# Altium integrated library RPL_POWER.IntLib: 35 symbols
Pins are listed as number, name and electrical type; pins without a type are passive.

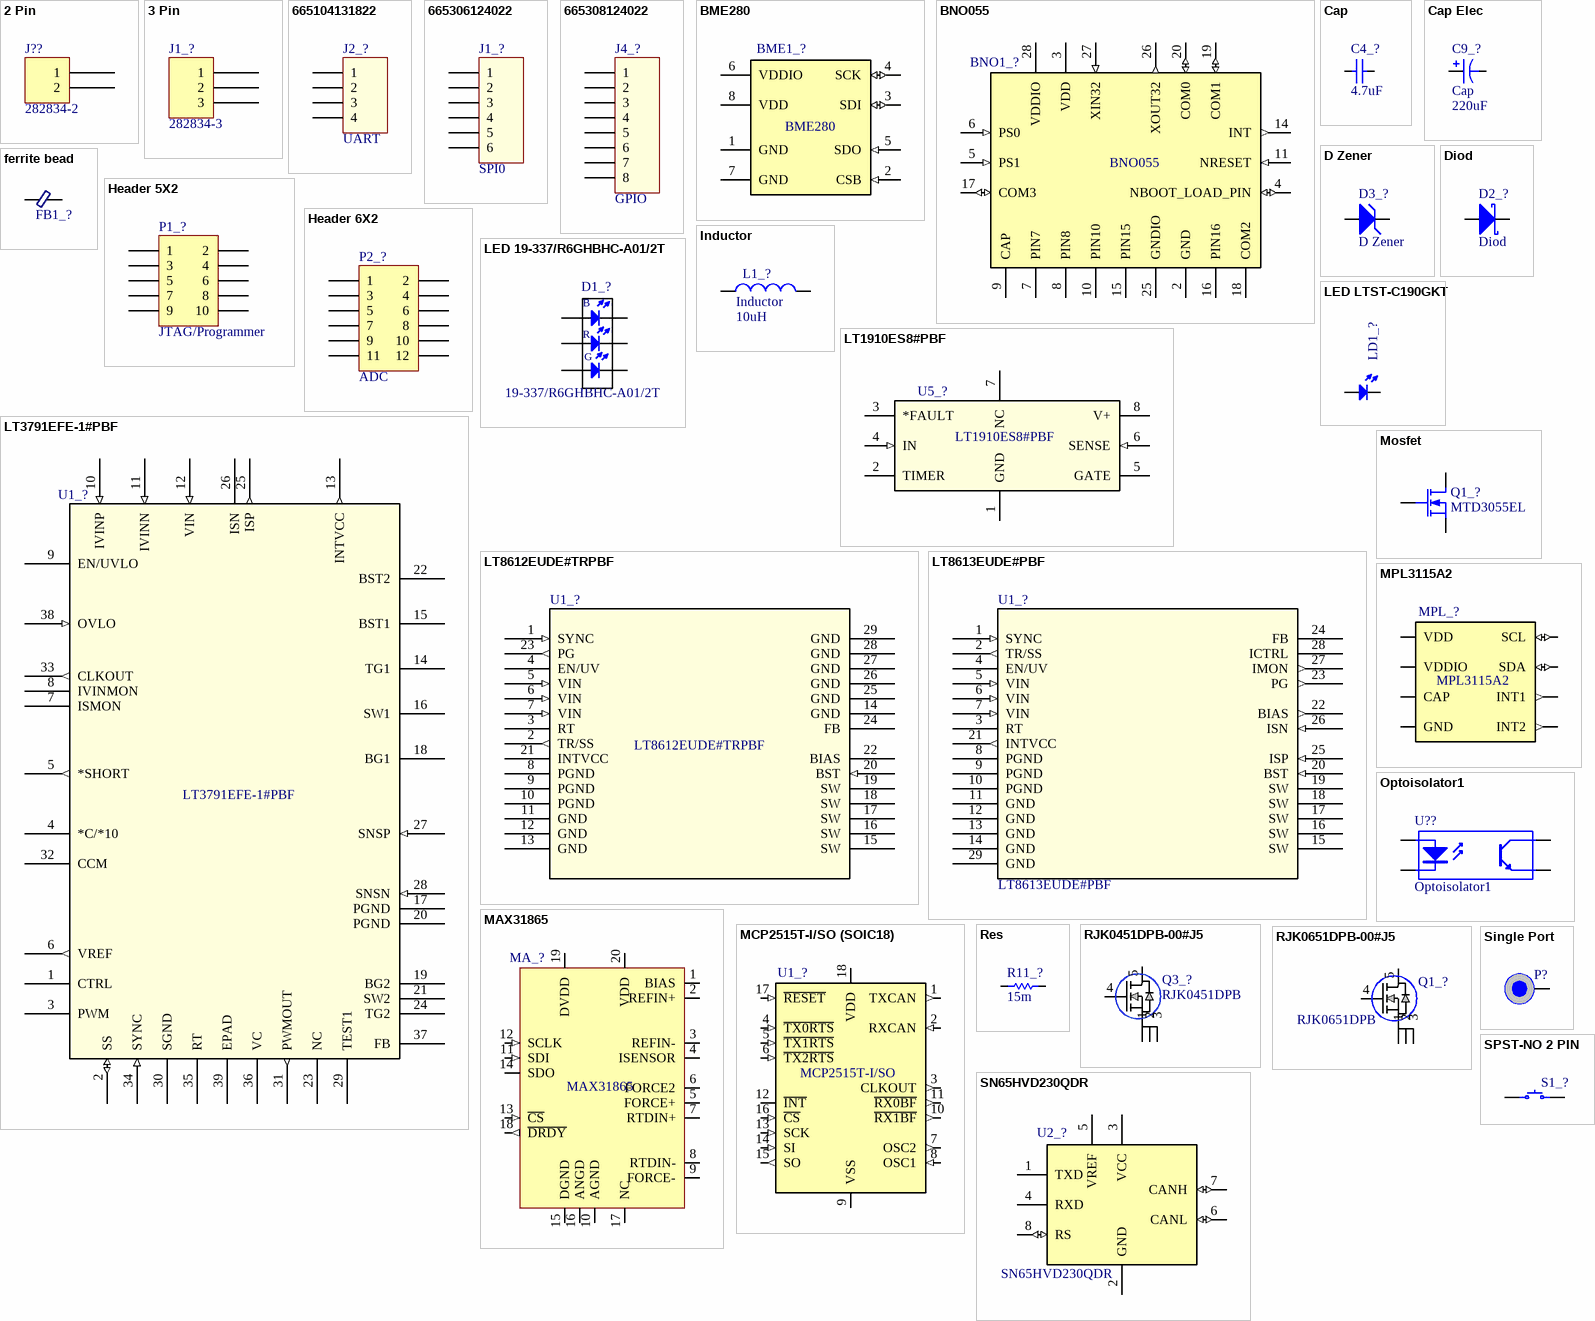
[diagram p0: symbols 2 Pin to SPST-NO 2 PIN]

## 2 Pin
designator J??, comment 282834-2
TERM BLOCK 2POS SIDE ENT 2.54MM; Manufacturer: TE Connectivity AMP Connectors; TemperatureRange: -40C ~ 105C; Voltage: 150V; Pitch: 0.100" (2.54mm); Number Of Levels: 1; Positions Per Level: 2; Part Number: 282834-2; PartId: 9289; Supplier 1: Digi-Key; Supplier Part Number 1: A98333-ND; ComponentLink1Description: Datasheet; ComponentLink1URL: http://www.te.com/commerce/DocumentDelivery/DDEController?Action=srchrtrv&DocNm=282834&DocType=Customer+Drawing&DocLang=English; ComponentLink2Description: Digi-Key Listing; ComponentLink2URL: http://www.digikey.ca/product-detail/en/282834-2/A98333-ND/1150135; Price: 1.3; Colour: Green; Orientation: Horizontal with Board
footprint TE 282834-2
pins: 1, 2

## 3 Pin
designator J1_?, comment 282834-3
TERM BLOCK 3POS SIDE ENT 2.54MM; Manufacturer: TE Connectivity AMP Connectors; TemperatureRange: -40C ~ 105C; Voltage: 150V; Pitch: 0.100" (2.54mm); Number Of Levels: 1; Positions Per Level: 3; Part Number: 282834-3; PartId: 9290; Supplier 1: Digi-Key; Supplier Part Number 1: A98334-ND; ComponentLink1Description: Datasheet; ComponentLink1URL: http://www.te.com/commerce/DocumentDelivery/DDEController?Action=srchrtrv&DocNm=282834&DocType=Customer+Drawing&DocLang=English; ComponentLink2Description: Digi-Key Listing; ComponentLink2URL: http://www.digikey.ca/product-detail/en/282834-3/A98334-ND/1153264; Price: 2.25; Colour: Green; Orientation: Horizontal with Board
footprint TE 282834-3
pins: 1, 2, 3

## 665104131822
designator J2_?, comment UART
WR-WTB 1.00 mm SMT Male Horizontal Shrouded, 4p; Part Number: 665104131822; Pitch: 1 mm; Pin Number: 4; ComponentLink1Description: Manufacturer; ComponentLink1URL: http://www.we-online.de; ComponentLink2Description: Datasheet; ComponentLink2URL: http://katalog.we-online.de/em/datasheet/6651xx131822.pdf; Published Date: June 2017; Publisher: Wurth Elektronik
footprint 665104131822 (1.00 mm SMT Male Horizontal Shrouded, 4p)
pins: 1, 2, 3, 4

## 665306124022
designator J1_?, comment SPI0
WR-WTB 1.00 mm SMT Male Vertical Shrouded Header, 6p; Part Number: 665306124022; Pitch: 1 mm; Pin Number: 6; ComponentLink1Description: Manufacturer; ComponentLink1URL: http://www.we-online.de; ComponentLink2Description: Datasheet; ComponentLink2URL: http://katalog.we-online.de/em/datasheet/6653xx124022.pdf; Published Date: June 2017; Publisher: Wurth Elektronik
footprint 665306124022 (1.00 mm SMT Male Vertical Shrouded Header, 6p)
pins: 1, 2, 3, 4, 5, 6

## 665308124022
designator J4_?, comment GPIO
WR-WTB 1.00 mm SMT Male Vertical Shrouded Header, 8p; Part Number: 665308124022; Pitch: 1 mm; Pin Number: 8; ComponentLink1Description: Manufacturer; ComponentLink1URL: http://www.we-online.de; ComponentLink2Description: Datasheet; ComponentLink2URL: http://katalog.we-online.de/em/datasheet/6653xx124022.pdf; Published Date: June 2017; Publisher: Wurth Elektronik
footprint 665308124022 (1.00 mm SMT Male Vertical Shrouded Header, 8p)
pins: 1, 2, 3, 4, 5, 6, 7, 8

## BME280
designator BME1_?
Integrated pressure, humidity and temperature sensor; 8-pin 2.5x2.5x0.93mm LGA; MF: Bosch; Package: LGA-8 Bosch; Availability: Good; MP: BME280; Price: 5.12 USD; Value: *
footprint BME280
pins: 1 GND (power), 2 CSB (in), 3 SDI (io), 4 SCK (io), 5 SDO (in), 6 VDDIO (power), 7 GND (power), 8 VDD (power)

## BNO055
designator BNO1_?
BNO055 9-axis Absolute Orientation Sensor ( SiP ) w/Sensors and Sensor Fusion; MF: Bosch; MP: BNO055; Availability: Good; Package: LGA-28 Bosch; Price: 7.78 USD; Value: *
footprint LGA28R50P4X10_380X520X100
pins: 2 GND (power), 3 VDD (power), 4 NBOOT_LOAD_PIN (io), 5 PS1 (in), 6 PS0 (in), 7 PIN7, 8 PIN8, 9 CAP, 10 PIN10 (power), 11 NRESET (in), 14 INT (out), 15 PIN15 (power), 16 PIN16 (power), 17 COM3 (io), 18 COM2, 19 COM1 (io), 20 COM0 (io), 25 GNDIO (power), 26 XOUT32 (out), 27 XIN32 (in), 28 VDDIO (power)

## Cap
designator C4_?  value 4.7uF  (hidden comment: Cap)
footprint C0805C475K9RACAUTO (CAPC2013X88N)
pins: 1, 2

## Cap Elec
designator C9_?, comment Cap  value 220uF
footprint EEE_FK1V221AP
pins: 1, 2

## D Zener
designator D3_?
Zener Diode; Published: 8-Jun-2000; LatestRevisionDate: 17-Jul-2002; LatestRevisionNote: Re-released for DXP Platform.; PackageReference: DIODE-0.7; Publisher: Altium Limited; PackageDescription: Diode, Thru-Hole; 2 Leads; 0.7 in Pin Spacing
footprint SMAJ30A-TP
pins: 1 A, 2 K

## Diod
designator D2_?
footprint SODFL250X80-2N (SODFL, 2-Leads, Body 1.25x2.50mm, IPC Medium Density)
pins: 1 A, 2 K

## ferrite bead
designator FB1_?  (value not drawn)
footprint RES 0805
pins: 1, 2

## Header 5X2
designator P1_?, comment JTAG/Programmer
Header, 5-Pin, Dual row; LatestRevisionDate: 17-Jul-2002; LatestRevisionNote: Re-released for DXP Platform.; Publisher: Altium Limited
footprint FTSH-105-01-XXX-D-K
pins: 1, 2, 3, 4, 5, 6, 7, 8, 9, 10

## Header 6X2
designator P2_?, comment ADC
Header, 6-Pin, Dual row; LatestRevisionDate: 17-Jul-2002; LatestRevisionNote: Re-released for DXP Platform.; Publisher: Altium Limited
footprint HDR2X6 (Connector; Header; 6x2 Position)
signal-integrity model Connector
pins: 1, 2, 3, 4, 5, 6, 7, 8, 9, 10, 11, 12

## Inductor
designator L1_?  value 10uH
footprint SER1360-103KLB
pins: 1, 2

## LED 19-337/R6GHBHC-A01/2T
designator D1_?, comment 19-337/R6GHBHC-A01/2T
LED Tri-Color Blue/Green/Red 468nm/518nm/632nm 6-Pin T/R; MF: Everlight; Package: SMD-2 Everlight; Price: 0.17 USD; MP: 19-337/R6GHBHC-A01/2T; Availability: Good; Value: *
footprint LED_19-337/R6GHBHC-A01/2T
pins: 1 C1, 2 C2, 3 C3, 4 A1, 5 A2, 6 A3
text: B; R; G

## LED LTST-C190GKT
designator LD1_?  (value not drawn)
Green 1.6 x 0.8 x 0.8 mm 130Â° Water Clear 6 mcd 2.1 V SMT LED; MF: Lite-On; Price: 0.06 USD; MP: LTST-C190GKT; Availability: Good; Package: 0603 Lite-On; Value: *
footprint LEDM1608X80_LTST-C190GKT(Primary)
pins: A, C

## LT1910ES8#PBF
designator U5_?
Imported; Vendor: Linear Technology; Manufacturer_Part_Number: lt1910es8#pbf; Value: Value; Type: Type; RefDes: RefDes
footprint SO-8_S
pins: 1 GND (power), 2 TIMER, 3 *FAULT, 4 IN (in), 5 GATE, 6 SENSE (in), 7 NC, 8 V+ (power)

## LT3791EFE-1#PBF
designator U1_?
Imported; Vendor: Linear Technology; Manufacturer_Part_Number: lt3791efe-1#pbf; Value: Value; Type: Type; RefDes: RefDes
footprint TSSOP-38_FE/AA
pins: 1 CTRL, 2 SS (io), 3 PWM, 4 *C/*10, 5 *SHORT (out), 6 VREF (out), 7 ISMON, 8 IVINMON, 9 EN/UVLO, 10 IVINP (in), 11 IVINN (in), 12 VIN (in), 13 INTVCC (out), 14 TG1, 15 BST1, 16 SW1, 17 PGND (power), 18 BG1, 19 BG2, 20 PGND (power), 21 SW2, 22 BST2, 23 NC, 24 TG2, 25 ISP (out), 26 ISN, 27 SNSP (in), 28 SNSN (in), 29 TEST1, 30 SGND (power), 31 PWMOUT (out), 32 CCM, 33 CLKOUT (out), 34 SYNC (in), 35 RT, 36 VC, 37 FB, 38 OVLO (in), 39 EPAD

## LT8612EUDE#TRPBF
designator U1_?
Imported; Vendor: Linear Technology; Manufacturer_Part_Number: lt8612eude#trpbf; Value: Value; Type: Type; RefDes: RefDes
footprint QFN-28_UDE-M
pins: 1 SYNC (in), 2 TR/SS (out), 3 RT, 4 EN/UV, 5 VIN (in), 6 VIN (in), 7 VIN (in), 8 PGND (power), 9 PGND (power), 10 PGND (power), 11 GND (power), 12 GND (power), 13 GND (power), 14 GND (power), 15 SW, 16 SW, 17 SW, 18 SW, 19 SW, 20 BST (in), 21 INTVCC, 22 BIAS, 23 PG (out), 24 FB, 25 GND (power), 26 GND (power), 27 GND (power), 28 GND (power), 29 GND (power)

## LT8613EUDE#PBF
designator U1_?
Imported; Vendor: Linear Technology; Manufacturer_Part_Number: lt8613eude#pbf; Value: Value; Type: Type; RefDes: RefDes
footprint QFN-28_UDE-L
pins: 1 SYNC (in), 2 TR/SS (out), 3 RT, 4 EN/UV, 5 VIN (in), 6 VIN (in), 7 VIN (in), 8 PGND (power), 9 PGND (power), 10 PGND (power), 11 GND (power), 12 GND (power), 13 GND (power), 14 GND (power), 15 SW, 16 SW, 17 SW, 18 SW, 19 SW, 20 BST (in), 21 INTVCC (out), 22 BIAS (out), 23 PG (out), 24 FB, 25 ISP (in), 26 ISN (in), 27 IMON (out), 28 ICTRL, 29 GND (power)

## MAX31865
designator MA_?
Link: *
footprint TQFN20-EP-Maxim
pins: 1 BIAS, 2 REFIN+, 3 REFIN-, 4 ISENSOR, 5 FORCE+, 6 FORCE2, 7 RTDIN+, 8 RTDIN-, 9 FORCE-, 10 AGND, 11 SDI (in), 12 SCLK (in), 13 ~{CS} (in), 14 SDO, 15 DGND, 16 ANGD, 17 NC, 18 ~{DRDY} (out), 19 DVDD, 20 VDD

## MCP2515T-I/SO (SOIC18)
designator U1_?, comment MCP2515T-I/SO
MCP2515 Series 5.5 V 1 Mb/s Stand Alone SPI Interface CAN Controller- SOIC-18; MF: Microchip; Package: SOIC-18 Microchip; Availability: Good; MP: MCP2515T-I/SO; Price: 1.63 USD; Value: *
footprint SOIC18-1.27-11.5X7.5MM
pins: 1 TXCAN (out), 2 RXCAN (in), 3 CLKOUT (out), 4 ~{TX0RTS} (in), 5 ~{TX1RTS} (in), 6 ~{TX2RTS} (in), 7 OSC2 (out), 8 OSC1 (in), 9 VSS (power), 10 ~{RX1BF} (out), 11 ~{RX0BF} (out), 12 ~{INT}, 13 SCK (in), 14 SI (in), 15 SO (out), 16 ~{CS} (in), 17 ~{RESET} (in), 18 VDD (power)

## Mosfet
designator Q1_?, comment MTD3055EL
footprint TO229P990X239-3N
pins: 1 D, 2 G, 3 S

## MPL3115A2
designator MPL_?
Pressure Sensor, 50-110kpa, Lga-8; MF: NXP Semiconductors; MP: MPL3115A2; Availability: Good; Package: LGA-8 NXP Semiconductors; Price: 2.74 USD; Value: *
footprint LGA8
pins: 1 VDD (power), 2 CAP (power), 3 GND (power), 4 VDDIO (power), 5 INT2 (out), 6 INT1 (out), 7 SDA (io), 8 SCL (io)

## Optoisolator1
designator U??
4-Pin Phototransistor Optocoupler; Published: 24-Mar-1999; LatestRevisionDate: 04-Mar-2005; LatestRevisionNote: Sch pins 3 & 4 Swapped.; DatasheetVersion: Nov-2003; PackageReference: DIP-4; Publisher: Altium Limited
footprint DIP-4 (DIP; 4 Leads; Row Spacing 7.62 mm; Pitch 2.54 mm)
pins: 1 A "Anode", 2 K "Cathode", 3 E "Emitter", 4 C "Collector"

## Res
designator R11_?  value 15m  (hidden comment: Res)
footprint WSL2010R0150FEA(2010)
pins: 1, 2

## RJK0451DPB-00#J5
designator Q3_?, comment RJK0451DPB
Imported; Manufacturer_Part_Number: RJK0451DPB-00#J5; Vendor: Renesas; VDSS_(V): 40; VGSS_(V): +/-20; ID_(A)@25C: 35; Pch(W): 45; Rds(on)@VGS: 10V,[8.0V]Max=7; QGD_(nC): 3; QG_(nC): 14; RG_(?): 0.7; DatasheetLink: http://www.renesas.com/request?SCREEN_ID=ViewDocumentSearch&EXECUTE_ACTION=search&KEY_WORD=RJK0451DPB-00#J5; PartType: MOSFET MV; Package: LFPAK; Manufacturer_Name: Renesas; Value: Value
footprint LFPAK
pins: 1, 2, 3, 4, 5

## RJK0651DPB-00#J5
designator Q1_?, comment RJK0651DPB
Imported; Manufacturer_Part_Number: RJK0651DPB-00#J5; Vendor: Renesas; VDSS_(V): 60; VGSS_(V): +/-20; ID_(A)@25C: 25; Pch(W): 45; Rds(on)@VGS: 10V,[8.0V]Max=14; QGD_(nC): 3.7; QG_(nC): 15; RG_(?): 0.7; DatasheetLink: http://www.renesas.com/request?SCREEN_ID=ViewDocumentSearch&EXECUTE_ACTION=search&KEY_WORD=RJK0651DPB-00#J5; PartType: MOSFET MV; Package: LFPAK; Manufacturer_Name: Renesas; Value: Value
footprint LFPAK
pins: 1, 2, 3, 4, 5

## Single Port
designator P?  (value not drawn)
footprint 12AWG (American wire gauge (AWG) size 12 (11.684 mm))
pins: 1

## SN65HVD230QDR
designator U2_?
3.3-V CAN Transceiver with Standby Mode 8-SOIC -40 to 125; MF: Texas Instruments; Package: SOIC-8 Texas Instruments; Availability: Good; MP: SN65HVD230QDR; Price: 1.74 USD; Value: *
footprint SOIC127P600X175-8N
pins: 1 TXD, 2 GND (power), 3 VCC (power), 4 RXD, 5 VREF, 6 CANL (io), 7 CANH (io), 8 RS (io)

## SPST-NO 2 PIN
designator S1_?, comment FSMSMTR  (value not drawn)
SWITCH TACTILE SPST-NO 0.05A 24V; Manufacturer: TE Connectivity Alcoswitch Switches; Switch Function: Off-Mom; Contact Rating @ Voltage: 0.05A @ 24VDC; Actuator Type: Standard; Actuator Orientation: Top Actuated; Illumination: Non-Illuminated; Operating Force: 180gf; Switch Travel: 0.25mm; Mechanical Life: 20,000 Cycles; Part Number: FSMSMTR; PartId: 8251; Supplier 1: Digi-Key; Supplier Part Number 1: 450-1758-2-ND; ComponentLink1Description: Datasheet; ComponentLink1URL: http://www.te.com/commerce/DocumentDelivery/DDEController?Action=srchrtrv&DocNm=1437566-3&DocType=Customer+Drawing&DocLang=English; ComponentLink2Description: Digi-Key Listing; ComponentLink2URL: http://www.digikey.com/product-detail/en/FSMSMTR/450-1758-2-ND/529671; Price: 0.175; Circuit: SPST-NO; Illumination Voltage: -; Illumination Type, Colour: -; Operating Temperature: -35C ~ 85C
footprint TE FSMSMTR
pins: 1, 2

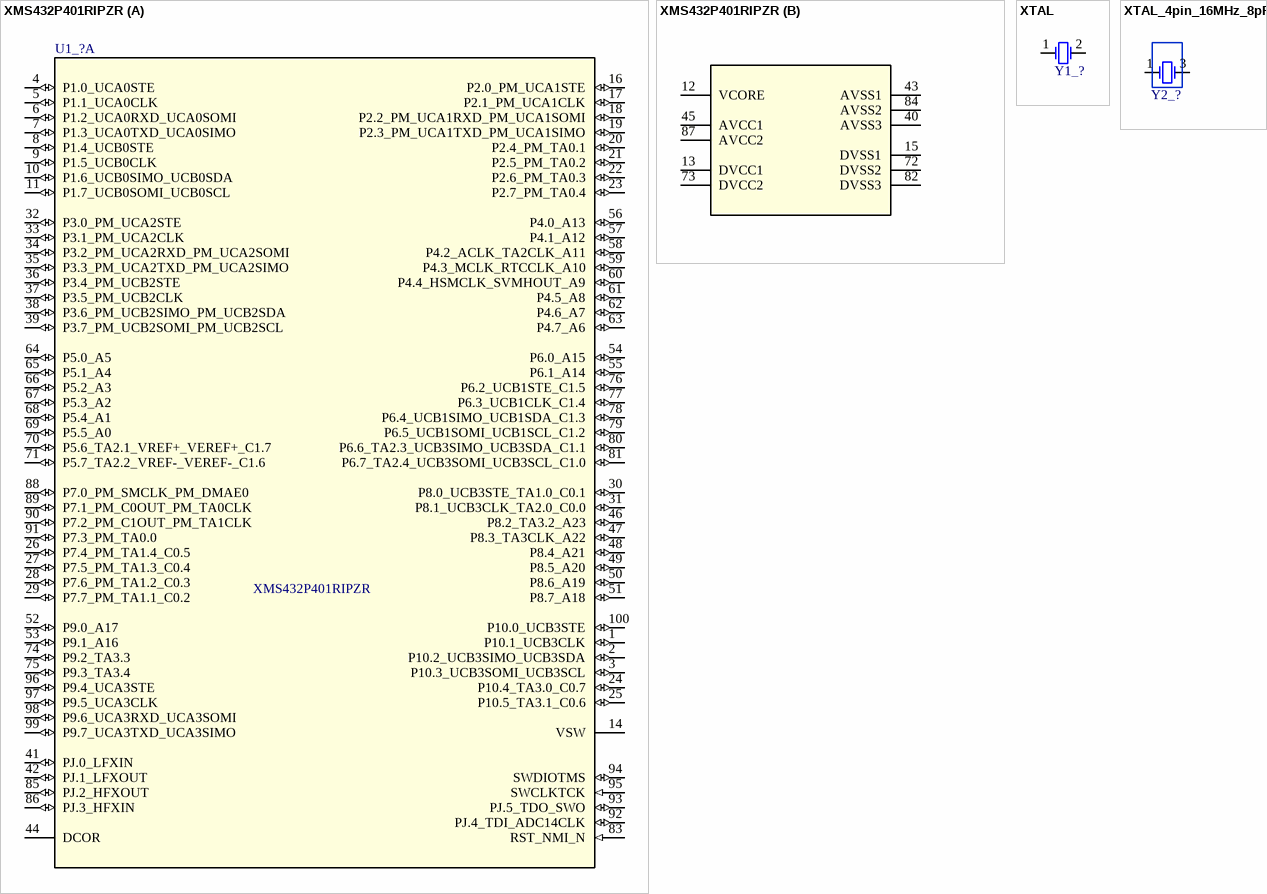
[diagram p1: symbols XMS432P401RIPZR to XTAL_4pin_16MHz_8pF]

## XMS432P401RIPZR
designator U1_?
Imported; Manufacturer: Texas Instruments; CompType: IC; PIN_COUNT: 100; PartNumber: XMS432P401RIPZR; PackageReference: PZ0100A; MountType: SMT; RefDes: RefDes; TYPE: TYPE; Value: Value
footprint PZ0100A_N
part A pins: 1 P10.1_UCB3CLK (io), 2 P10.2_UCB3SIMO_UCB3SDA (io), 3 P10.3_UCB3SOMI_UCB3SCL (io), 4 P1.0_UCA0STE (io), 5 P1.1_UCA0CLK (io), 6 P1.2_UCA0RXD_UCA0SOMI (io), 7 P1.3_UCA0TXD_UCA0SIMO (io), 8 P1.4_UCB0STE (io), 9 P1.5_UCB0CLK (io), 10 P1.6_UCB0SIMO_UCB0SDA (io), 11 P1.7_UCB0SOMI_UCB0SCL (io), 14 VSW, 16 P2.0_PM_UCA1STE (io), 17 P2.1_PM_UCA1CLK (io), 18 P2.2_PM_UCA1RXD_PM_UCA1SOMI (io), 19 P2.3_PM_UCA1TXD_PM_UCA1SIMO (io), 20 P2.4_PM_TA0.1 (io), 21 P2.5_PM_TA0.2 (io), 22 P2.6_PM_TA0.3 (io), 23 P2.7_PM_TA0.4 (io), 24 P10.4_TA3.0_C0.7 (io), 25 P10.5_TA3.1_C0.6 (io), 26 P7.4_PM_TA1.4_C0.5 (io), 27 P7.5_PM_TA1.3_C0.4 (io), 28 P7.6_PM_TA1.2_C0.3 (io), 29 P7.7_PM_TA1.1_C0.2 (io), 30 P8.0_UCB3STE_TA1.0_C0.1 (io), 31 P8.1_UCB3CLK_TA2.0_C0.0 (io), 32 P3.0_PM_UCA2STE (io), 33 P3.1_PM_UCA2CLK (io), 34 P3.2_PM_UCA2RXD_PM_UCA2SOMI (io), 35 P3.3_PM_UCA2TXD_PM_UCA2SIMO (io), 36 P3.4_PM_UCB2STE (io), 37 P3.5_PM_UCB2CLK (io), 38 P3.6_PM_UCB2SIMO_PM_UCB2SDA (io), 39 P3.7_PM_UCB2SOMI_PM_UCB2SCL (io), 41 PJ.0_LFXIN (io), 42 PJ.1_LFXOUT (io), 44 DCOR, 46 P8.2_TA3.2_A23 (io), 47 P8.3_TA3CLK_A22 (io), 48 P8.4_A21 (io), 49 P8.5_A20 (io), 50 P8.6_A19 (io), 51 P8.7_A18 (io), 52 P9.0_A17 (io), 53 P9.1_A16 (io), 54 P6.0_A15 (io), 55 P6.1_A14 (io), 56 P4.0_A13 (io), 57 P4.1_A12 (io), 58 P4.2_ACLK_TA2CLK_A11 (io), 59 P4.3_MCLK_RTCCLK_A10 (io), 60 P4.4_HSMCLK_SVMHOUT_A9 (io), 61 P4.5_A8 (io), 62 P4.6_A7 (io), 63 P4.7_A6 (io), 64 P5.0_A5 (io), 65 P5.1_A4 (io), 66 P5.2_A3 (io), 67 P5.3_A2 (io), 68 P5.4_A1 (io), 69 P5.5_A0 (io), 70 P5.6_TA2.1_VREF+_VEREF+_C1.7 (io), 71 P5.7_TA2.2_VREF-_VEREF-_C1.6 (io), 74 P9.2_TA3.3 (io), 75 P9.3_TA3.4 (io), 76 P6.2_UCB1STE_C1.5 (io), 77 P6.3_UCB1CLK_C1.4 (io), 78 P6.4_UCB1SIMO_UCB1SDA_C1.3 (io), 79 P6.5_UCB1SOMI_UCB1SCL_C1.2 (io), 80 P6.6_TA2.3_UCB3SIMO_UCB3SDA_C1.1 (io), 81 P6.7_TA2.4_UCB3SOMI_UCB3SCL_C1.0 (io), 83 RST_NMI_N (in), 85 PJ.2_HFXOUT (io), 86 PJ.3_HFXIN (io), 88 P7.0_PM_SMCLK_PM_DMAE0 (io), 89 P7.1_PM_C0OUT_PM_TA0CLK (io), 90 P7.2_PM_C1OUT_PM_TA1CLK (io), 91 P7.3_PM_TA0.0 (io), 92 PJ.4_TDI_ADC14CLK (io), 93 PJ.5_TDO_SWO (io), 94 SWDIOTMS (io), 95 SWCLKTCK (in), 96 P9.4_UCA3STE (io), 97 P9.5_UCA3CLK (io), 98 P9.6_UCA3RXD_UCA3SOMI (io), 99 P9.7_UCA3TXD_UCA3SIMO (io), 100 P10.0_UCB3STE (io)
part B pins: 12 VCORE (power), 13 DVCC1 (power), 15 DVSS1 (power), 40 AVSS3 (power), 43 AVSS1 (power), 45 AVCC1 (power), 72 DVSS2 (power), 73 DVCC2 (power), 82 DVSS3 (power), 84 AVSS2 (power), 87 AVCC2 (power)

## XTAL
designator Y1_?, comment 32.7680KHZ 12.5PF  (value not drawn)
footprint XTAL320X150X90 (CRYSTAL 32.7680KHZ 12.5PF SMT, FC-135R 32.7680KA-A3)
pins: 1 OSC1, 2 OSC2

## XTAL_4pin_16MHz_8pF
designator Y2_?, comment 48.00 MHZ 12.0PF  (value not drawn)
footprint OSCSC105P160X120X35-4N (Crystal 16MHz 8pF)
pins: 1 OSC1, 2 OSC2 hidden, 3 OSC3, 4 OSC4 hidden